# Altium schematic symbol library Howard.SchLib: 217 symbols (part 4 of 5)
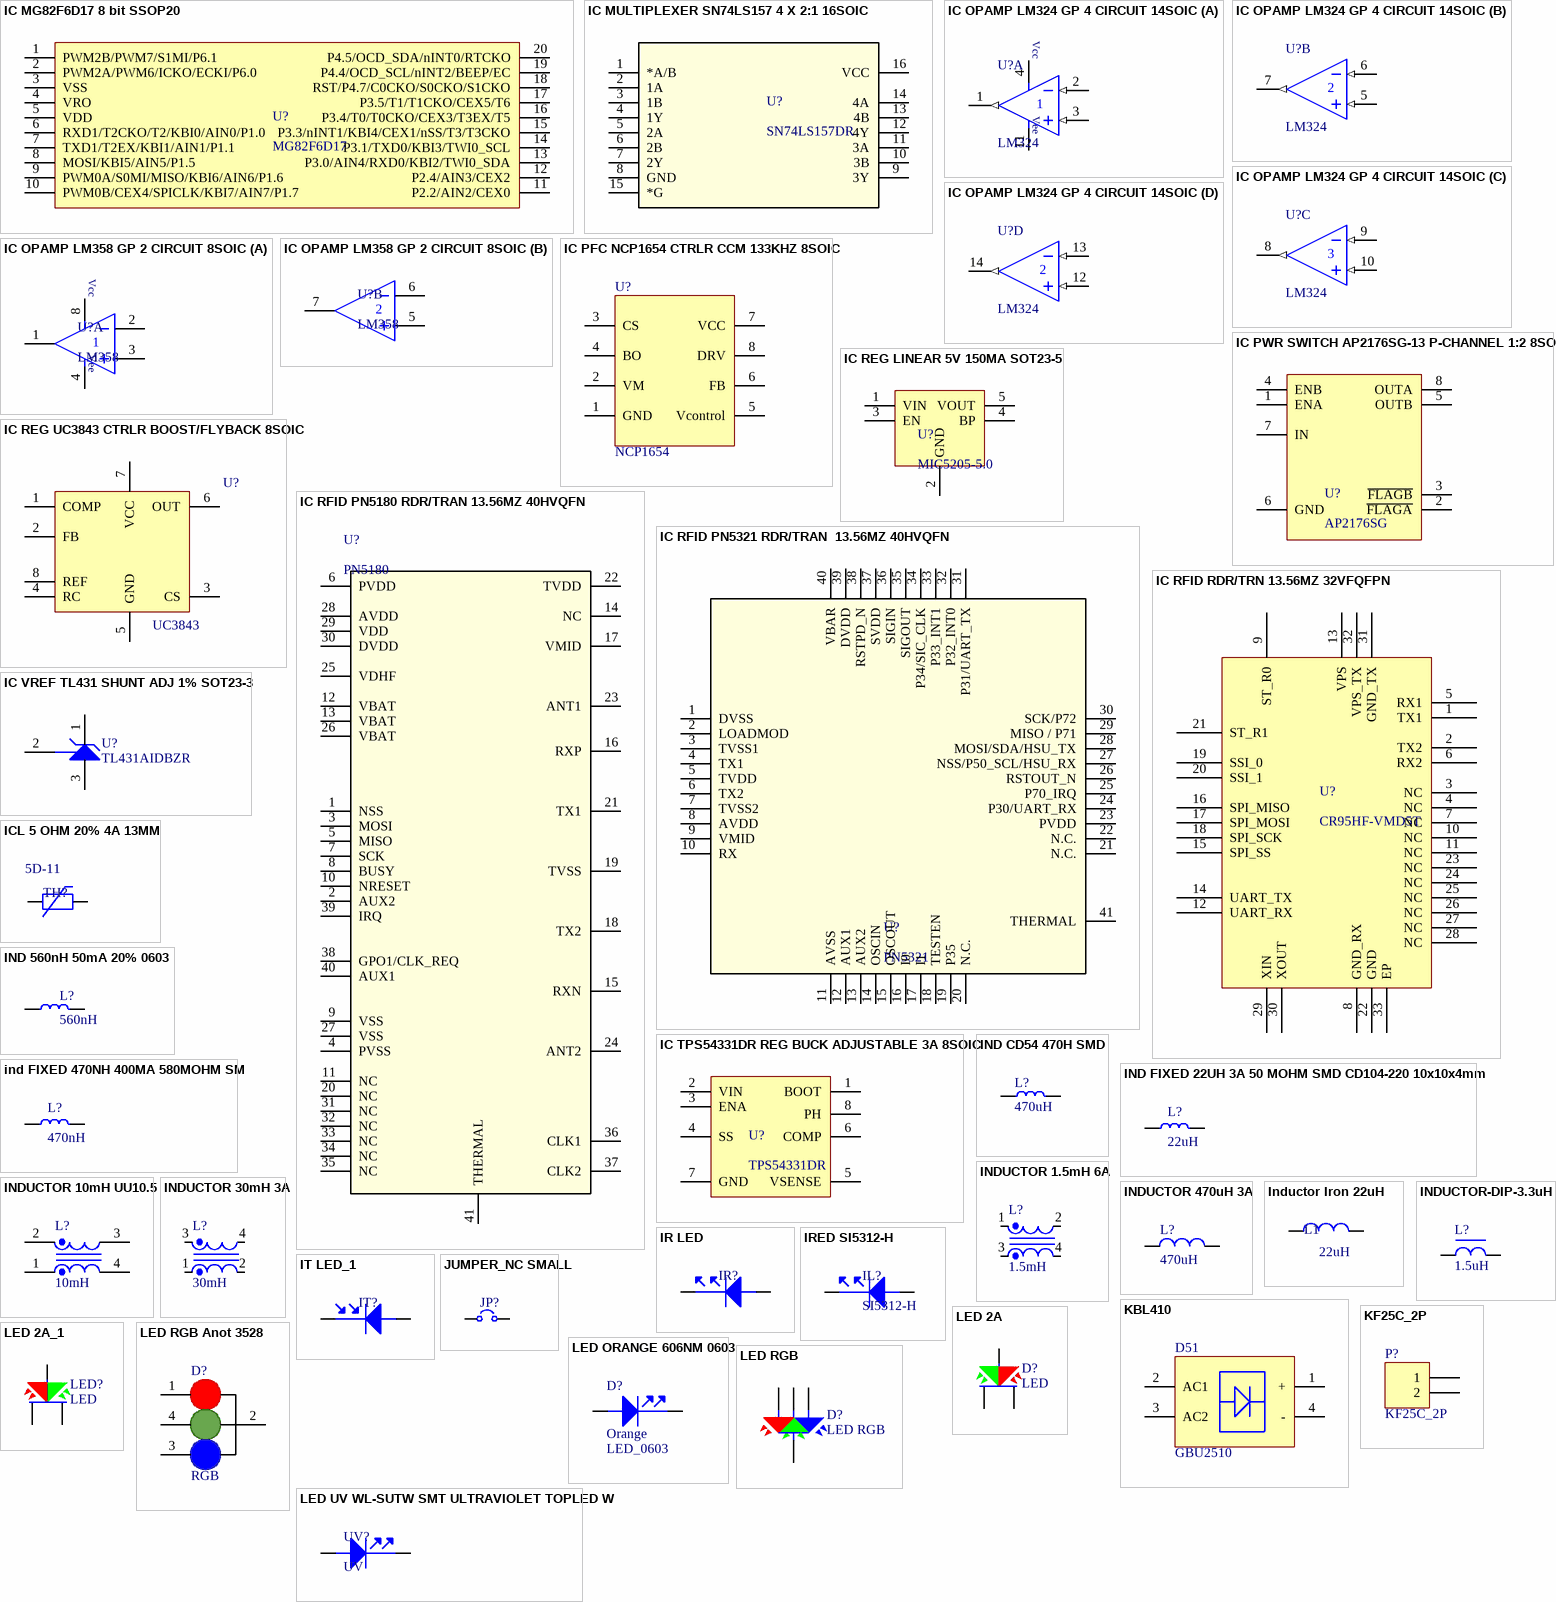
[diagram p10: symbols IC MG82F6D17 8 bit SSOP20 to LED UV WL-SUTW SMT ULTRAVIOLET TOPLED W]

## IND FIXED 22UH 3A 50 MOHM SMD CD104-220 10x10x4mm
designator L?, comment 22uH
Inductor Power Shielded Wirewound 22uH 20% 100KHz Ferrite 3A 0.05Ohm DCR Automotive T/R; Manufacturer: Wurth Electronics; Manufacturer Part Number: 7447714220; Saturation Current: 3.6A; DC Resistance (DCR): 50mR; Self Resonant Frequency: 14.5MHz; Supplier 1: Digi-Key; Stock 1: 9408; Pricing 1: 1=2.26, 10=2.172, 50=1.961, 100=1.759, 250=1.61 (USD); Mount: Surface Mount; Case/Package: Nonstandard; Core Material: Ferrite; Min Operating Temperature: -40°C; Max Operating Temperature: 125°C; Package Quantity: 1; Current Rating: 3A; Tolerance: 20%; Shielding: Shielded; Packaging: Tape and Reel; Inductance Tolerance: 20%; Inductance: 22uH; Resistor Type: Wirewound; Test Frequency: 100kHz; Max DC Current: 3A; Termination: SMD/SMT; RMS Current (Irms): 3A; Series: WE-PD; Resistance: 50mR; Series Resistance: 50mR; Length: 10mm; Width: 10mm; Height: 5mm; Height - Seated (Max): 0.197inch; Depth: 10mm; Ratings: AEC-Q200; RoHS Compliant: Yes; ComponentLink1URL: https://datasheet.ciiva.com/13320/7447714220-70113-13320863.pdf?src-supplier=Mouser; ComponentLink1Description: https://datasheet.ciiva.com/13320/7447714220-70113-13320863.pdf?src-supplier=Mouser; ComponentLink2URL: https://datasheet.ciiva.com/1058/7447714220-1058608.pdf?src-supplier=Digi-Key; ComponentLink2Description: https://datasheet.ciiva.com/1058/7447714220-1058608.pdf?src-supplier=Digi-Key; ComponentLink3URL: https://datasheet.ciiva.com/30489/0900766b81281c0b-30489748.pdf?src-supplier=Rs; ComponentLink3Description: https://datasheet.ciiva.com/30489/0900766b81281c0b-30489748.pdf?src-supplier=Rs; ComponentLink4URL: https://datasheet.ciiva.com/7691/1736273-7691674.pdf?src-supplier=Element14; ComponentLink4Description: https://datasheet.ciiva.com/7691/1736273-7691674.pdf?src-supplier=Element14; ComponentLink5URL: https://datasheet.ciiva.com/1058/7447714220-1058609.pdf?src-supplier=Digi-Key; ComponentLink5Description: https://datasheet.ciiva.com/1058/7447714220-1058609.pdf?src-supplier=Digi-Key; ComponentLink6URL: https://datasheet.ciiva.com/48691/001087798-da-01-ml-we-pd-smd-speicherdrossel-74477142-de-en-48691509.pdf?src-supplier=Conrad; ComponentLink6Description: https://datasheet.ciiva.com/48691/001087798-da-01-ml-we-pd-smd-speicherdrossel-74477142-de-en-48691509.pdf?src-supplier=Conrad; Supplier Part Number 1: 732-2992-1-ND
footprint IND 22uH
footprint L-SMD-M-12x10 (WE-PDA SMD Shielded Power Inductor, 1210)
footprint IND_12x12mm
pins: 1, 2

## ind FIXED 470NH 400MA 580MOHM SM
designator L?, comment 470nH
470 nH Shielded Multilayer Inductor 400 mA 580mOhm Max 0603 (1608 Metric); Manufacturer: Murata; Manufacturer Part Number: LQB18NNR47J10D; Core Material: Ferrite; Current Rating: 400mA; DC Resistance (DCR): 580mR; Self Resonant Frequency: 80MHz; Test Frequency: 25MHz; Tolerance: 5%; Supplier 1: Digi-Key; Stock 1: 3684; Pricing 1: 1=0.15, 10=0.139, 25=0.1236, 50=0.105, 100=0.0927, 250=0.085, 500=0.07726, 1000=0.0649 (USD); Mount: Surface Mount; Case/Package: 1608; Case Code (Metric): 1608; Case Code (Imperial): 0603; Min Operating Temperature: -55°C; Max Operating Temperature: 125°C; Shielding: Shielded; Packaging: Tape and Reel; Package Quantity: 4000; Inductance: 470nH; Max DC Current: 400mA; Termination: SMD/SMT; Series: LQB18NN_10; Length: 0.063inch; Width: 0.8mm; Height: 0.8mm; Height - Seated (Max): 0.037inch; RoHS Compliant: Yes; ComponentLink1URL: https://search.murata.co.jp/Ceramy/image/img/P02/JELF243B-0034.pdf?src-supplier=Digi-Key; ComponentLink1Description: https://search.murata.co.jp/Ceramy/image/img/P02/JELF243B-0034.pdf?src-supplier=Digi-Key; ComponentLink2URL: http://www.mouser.com/ds/2/281/o05e-522697.pdf?src-supplier=Mouser; ComponentLink2Description: http://www.mouser.com/ds/2/281/o05e-522697.pdf?src-supplier=Mouser; ComponentLink3URL: http://www.murata.com/~/media/webrenewal/support/library/catalog/products/inductor/chip/o05e.ashx?src-supplier=Digi-Key; ComponentLink3Description: http://www.murata.com/~/media/webrenewal/support/library/catalog/products/inductor/chip/o05e.ashx?src-supplier=Digi-Key; Supplier Part Number 1: 490-17864-6-ND
footprint INDC1608X06L (Chip Inductor, 2-Leads, Body 1.6x0.8mm, IPC High Density)
pins: 1, 2

## INDUCTOR 1.5mH 6A
designator L?, comment 1.5mH
INDUCTOR 1.5mH 6A; MANUFACTURER1_PART#: TLF9UA102W0R8K1; MANUFACTURER2_PART#: UU10.5/UF10.5 10x13mm; Value: 10mH; LOH_CODE: CLA2611; MANUFACTURER2: http://linhkienchatluong.vn/cuon-loc/cuon-loc-10mh-04mm-uu105uf105-10x13mm_sp487_ct3535.aspx; MANUFACTURER1: *; CATEGORY: IND-TH; SIZE: (17.00mm x 11.00mm)
footprint INDUCTOR 1.2MH
pins: 1, 2, 3, 4

## INDUCTOR 10mH UU10.5
designator L?, comment 10mH
INDUCTOR 10mH UU10.5; MANUFACTURER1_PART#: TLF9UA102W0R8K1; MANUFACTURER2_PART#: UU10.5/UF10.5 10x13mm; LOH_CODE: CLA2611; Value: 10mH; MANUFACTURER2: http://linhkienchatluong.vn/cuon-loc/cuon-loc-10mh-04mm-uu105uf105-10x13mm_sp487_ct3535.aspx; MANUFACTURER1: *; CATEGORY: IND-TH; SIZE: (17.00mm x 11.00mm)
footprint UU10.5
pins: 1, 2, 3, 4

## INDUCTOR 30mH 3A
designator L?, comment 30mH
INDUCTOR 30mH 3A; MANUFACTURER1_PART#: TLF9UA102W0R8K1; MANUFACTURER2_PART#: UU10.5/UF10.5 10x13mm; Value: 10mH; LOH_CODE: CLA2611; MANUFACTURER2: http://linhkienchatluong.vn/cuon-loc/cuon-loc-10mh-04mm-uu105uf105-10x13mm_sp487_ct3535.aspx; MANUFACTURER1: *; CATEGORY: IND-TH; SIZE: (17.00mm x 11.00mm)
footprint INDUCTOR 30mH
pins: 1, 2, 3, 4

## INDUCTOR 470uH 3A
designator L?, comment 470uH
INDUCTOR 470uH 3A
footprint INDUCTOR 470uH
pins: 1, 2

## Inductor Iron 22uH
designator L1, comment 22uH
Inductor
footprint SRR1208
pins: 1, 2

## INDUCTOR-DIP-3.3uH
designator L?, comment 1.5uH
Inductor 1.5uH 6A; Value: 150 mH
footprint L-D - 5m5-d1m2 (THT Inductor, 2-Leads, Body 8,0  mm)
pins: 1, 2

## IR LED
designator IR?, comment SI5312-H  (value not drawn)
IRED SI5312-H
footprint LED-3 IR (LED 2 PIN, 3ly Only colour)
pins: 1 A, 2 K

## IRED SI5312-H
designator IL?, comment SI5312-H
IRED SI5312-H
footprint SI5312-H
pins: 1 A, 2 K

## IT LED_1
designator IT?, comment SI5312-H  (value not drawn)
IRED SI5312-H
footprint LED-3 IR (LED 2 PIN, 3ly Only colour)
pins: 1 A, 2 K

## JUMPER_NC SMALL
designator JP?  (value not drawn)
footprint JUMP_NC (Chip Resistor, 2-Leads, Body 1.6x0.8mm, IPC High Density)
pins: 1, 2

## KBL410
designator D51, comment GBU2510
Diode Rectifier Bridge Single 600V 4A 4-Pin KBJ Tube; Manufacturer: Diodes; Manufacturer Part Number: KBJ406G; Max Reverse Current: 5uA; Forward Voltage: 1V; Number of Elements: 1; Peak Non-Repetitive Surge Current: 120A; Reverse Voltage (DC): 420V; Supplier 1: Digi-Key; Stock 1: 14380; Pricing 1: 1=1.03, 10=0.92, 100=0.7173, 500=0.59252, 1000=0.47344 (USD); Mount: Through Hole; Number of Pins: 4; Min Operating Temperature: -65°C; Max Operating Temperature: 150°C; Packaging: Rail/Tube; Forward Current: 4A; Max Repetitive Reverse Voltage (Vrrm): 600V; Element Configuration: Single; Max Surge Current: 120A; Package Quantity: 20; Termination: Through Hole; Series: -; Length: 25.2mm; Width: 9.7mm; Height: 19.3mm; Radiation Hardening: No; RoHS Compliant: Yes; ComponentLink1URL: https://www.diodes.com/assets/Datasheets/ds21206.pdf?src-supplier=Digi-Key; ComponentLink1Description: https://www.diodes.com/assets/Datasheets/ds21206.pdf?src-supplier=Digi-Key; ComponentLink2URL: http://www.diodes.com//datasheets/ds21206.pdf?src-supplier=Avnet; ComponentLink2Description: http://www.diodes.com//datasheets/ds21206.pdf?src-supplier=Avnet; ComponentLink3URL: https://www.verical.com/server-webapp/html/getDatasheet?partID=754306&src-supplier=Verical; ComponentLink3Description: https://www.verical.com/server-webapp/html/getDatasheet?partID=754306&src-supplier=Verical; Supplier Part Number 1: KBJ406G-ND
footprint KBL410
pins: 1 +, 2 AC1, 3 AC2, 4 -

## KF25C_2P
designator P?
Header, 2-Pin, pitch 7.62mm; Solder: WAVE; MPN: KF25C_2P; Value: KF25C_2P
footprint KF25C_2P
pins: 1, 2

## LED 2A
designator D?, comment LED
Anot Comment Green and Red; Value: LED 3 - 5 ly 2 Colour
footprint LED-52 (LED 3 PIN, 5 ly , Two colour)
pins: 1, 2, 3

## LED 2A_1
designator LED?, comment LED
Anot Comment Green and Red; Value: LED 3 - 5 ly 2 Colour
footprint LED-32 (LED 3 PIN, 3ly Two colour)
footprint LED-52 (LED 3 PIN, 5 ly , Two colour)
pins: 1, 2, 3

## LED ORANGE 606NM 0603
designator D?, comment Orange  Package / Case: LED_0603
LED SMARTLED ORANGE 606NM 0603; Manufacturer: OSRAM Opto Semiconductors Inc; Manufacturer Part Number: LO L29K-H2K1-24-Z; Millicandela Rating: 6.3mcd; Voltage - Forward (Vf) Typ: 1.8V; Current - Test: 2mA; Wavelength - Peak: 610nm; Viewing Angle: 160°; Lens Type: Diffused; Lens Style/Size: Rectangle with Flat Top, 1.3mm x 0.8mm; Luminous Flux @ Current - Test: 25 mlm; By: Hieu.Nguyen_20191030; Supplier 1: Digi-Key; Supplier Part Number 1: 475-2740-1-ND; RoHS: RoHS Compliant; Category: Optoelectronics; Stock 1: 15900; Pricing 1: 1=0.17, 10=0.141, 100=0.1127, 250=0.0986, 500=0.09016 (USD); Color: Orange; Wavelength - Dominant: 606nm; Size / Dimension: 1.70mm L x 0.80mm W; Height: 0.65mm; Mounting Type: Surface Mount; Packaging: Cut Tape (CT); ComponentLink1URL: http://catalog.osram-os.com/catalogue/catalogue.do;jsessionid=302CF83AF637AE24E40AEB0ADA267EDD?act=downloadFile&favOid=020000010003f9de000100b6; ComponentLink1Description: http://catalog.osram-os.com/catalogue/catalogue.do;jsessionid=302CF83AF637AE24E40AEB0ADA267EDD?act=downloadFile&favOid=020000010003f9de000100b6
footprint LED_0603_0m65
pins: 1 ANODE, 2 cathode

## LED RGB
designator D?
footprint led rgb (Connector; Header; 6 Position, 0.050" pitch)
pins: 1, 2, 3, 4

## LED RGB Anot 3528
designator D?, comment RGB
LED 5mm RGB Katot; Solder: WAVE; MPN: http://linhkienchatluong.vn/led-don-f5-5mm/led-5mm-rgb-trang-duc-k-chung_sp697_ct4454.aspx; Value: RGB; Category: *
footprint LED 3528 4PIN
pins: 1 R, 2 A, 3 B, 4 G

## LED UV WL-SUTW SMT ULTRAVIOLET TOPLED W
designator UV?, comment UV
Ultraviolet (UV) Emitter 365nm 3.6V 60mA 120° 1411 (3528 Metric); Manufacturer: Wurth Electronics; Manufacturer Part Number: 153283367A212; Supplier 1: Digi-Key; Stock 1: 2079; Pricing 1: 1=0.38, 10=0.34, 100=0.31, 250=0.29, 500=0.21 (USD); Supplier Part Number 1: 732-153283367A212CT-ND
footprint LED 3528
pins: 1 cathode, 2 ANODE

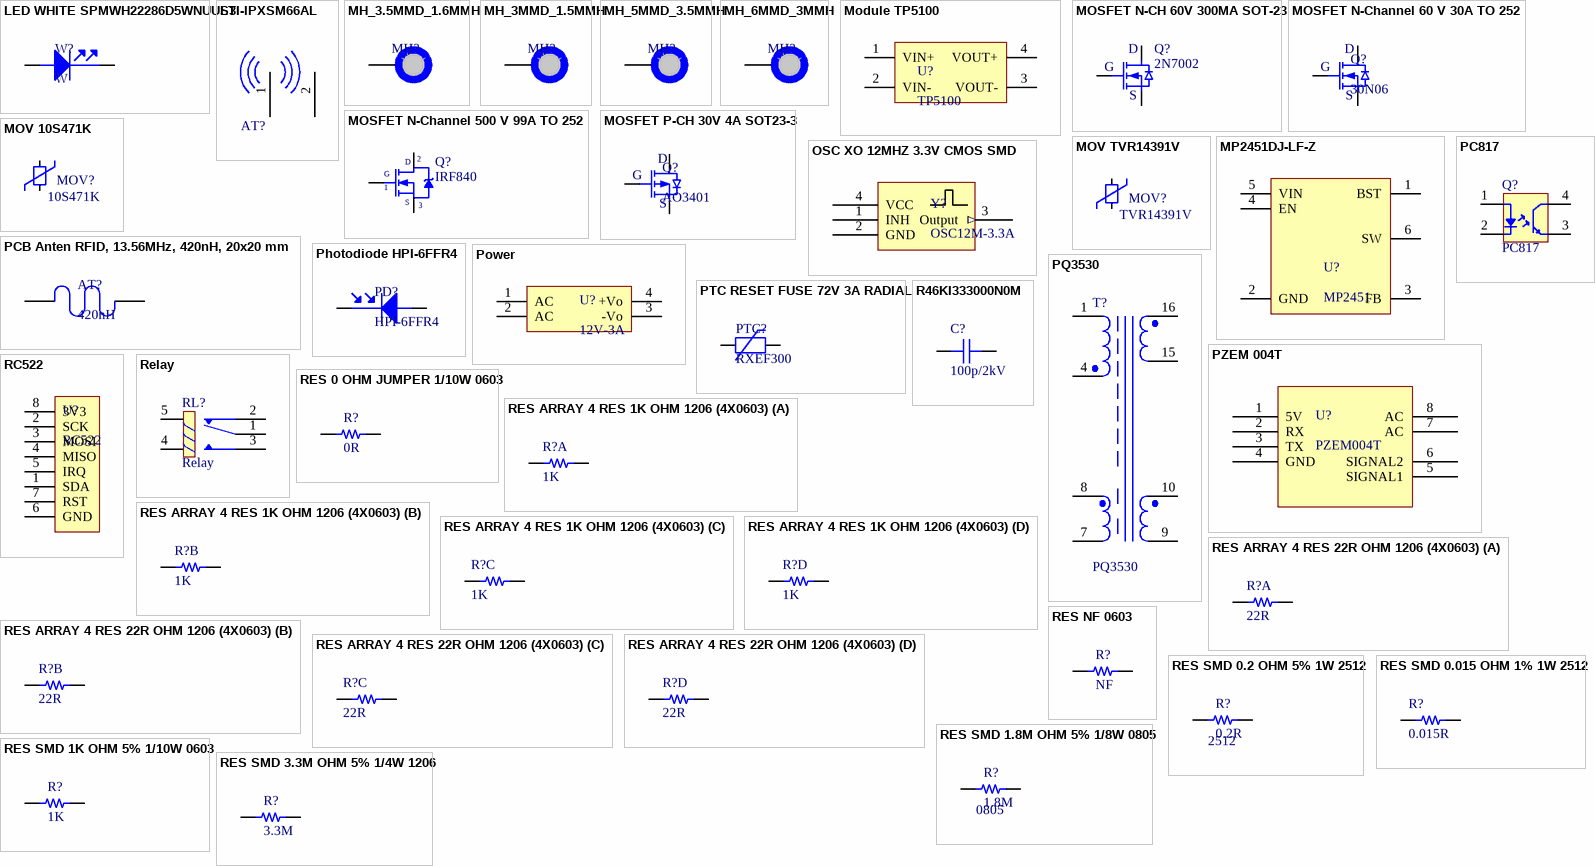
[diagram p6: symbols LED WHITE SPMWH22286D5WNUUS3 to RES SMD 3.3M OHM 5% 1/4W 1206]

## LED WHITE SPMWH22286D5WNUUS3
designator W?, comment W
LED Lighting LM281BA+ White, Warm 3500K 3.1V 60mA 120° 2-SMD, No Lead; Manufacturer: Samsung; Manufacturer Part Number: SPMWH22286D5WNUUS3; Supplier 1: Digi-Key; Stock 1: 39870; Pricing 1: 1=0.1, 10=0.03, 100=0.0141, 500=0.01206, 1000=0.00927, 2000=0.00872 (USD); Supplier Part Number 1: 1510-SPMWH22286D5WNUUS3DKR-ND
footprint LED 3228
footprint LED 3528W
pins: 1 cathode, 2 ANODE

## LTI-IPXSM66AL
designator AT?, comment IPEX_CON  (value not drawn)
IPEX CONNECTER ANTENNA GPS GSM; MPN: LTI-IPXSM66AL; Solder: SMT; Value: IPEX_CON
footprint IPEX
pins: 1 AT, 2 0

## MH_3.5MMD_1.6MMH
designator MH?  (value not drawn)
Mounting Hole 3.5mm Diameter, 1.6mm Hole
footprint MH_3.5MMD_1.6MMH
pins: 1

## MH_3MMD_1.5MMH
designator MH?  (value not drawn)
Mounting Hole 3mm Diameter, 1.5mm Hole
footprint MH_3MMD_1.5MMH
pins: 1

## MH_5MMD_3.5MMH
designator MH?  (value not drawn)
Mounting Hole 5mm Diameter, 3.5mm Hole
footprint MH_5MMD_3.5MMH
pins: 1

## MH_6MMD_3MMH
designator MH?  (value not drawn)
Mounting Hole 6mm Diameter, 3mm Hole
footprint MH_6MMD_3MMH
pins: 1

## Module TP5100
designator U?, comment TP5100
footprint TP5100
pins: 1 VIN+, 2 VIN-, 3 VOUT-, 4 VOUT+

## MOSFET N-CH 60V 300MA SOT-23
designator Q?, comment 2N7002
MOSFET N-CH 60V 300MA SOT-23; MPN: 2N7002,215; Manufacturer: ON Semiconductor / Fairchild; Solder: SMT; CompanyID: VT-00926; Value: 60V/0.3A; Continuous Drain Current (ID): 115mA; Gate to Source Voltage (Vgs): 20V; Max Power Dissipation: 200mW; Drain to Source Resistance: 1.2R; Element Configuration: Single; Nominal Vgs: 2.1V; Input Capacitance: 50pF; Number of Elements: 1; Rds On Max: 7.5R; On-State Resistance: 5.3R; Supplier 1: Digi-Key; Manufacturer Part Number: 2N7002; Stock 1: 0; Pricing 1: 1=0.45, 10=0.345, 100=0.2073, 500=0.1919, 1000=0.13049 (USD); Mount: Surface Mount; Case/Package: SOT-23; Number of Pins: 3; Contact Plating: Tin,Matte; Min Operating Temperature: -55°C; Max Operating Temperature: 150°C; Packaging: Tape and Reel; Drain to Source Voltage (Vdss): 60V; Package Quantity: 1; Drain to Source Breakdown Voltage: 60V; Power Dissipation: 200mW; Voltage Rating (DC): 60V; Current Rating: 115mA; Threshold Voltage: 2.1V; Series: -; Dual Supply Voltage: 60V; Voltage: 60V; Current: 115mA; Drain-source On Resistance-Max: 7.5R; Length: 2.92mm; Width: 1.3mm; Height: 0.93mm; Radiation Hardening: No; RoHS Compliant: Yes; Lead Free: Lead Free; Reach SVHC Compliant: Yes; ComponentLink1URL: https://datasheet.ciiva.com/931/2n7000-931777.pdf?src-supplier=Farnell; ComponentLink1Description: https://datasheet.ciiva.com/931/2n7000-931777.pdf?src-supplier=Farnell; ComponentLink2URL: https://datasheet.ciiva.com/22655/660093-22655230.pdf?src-supplier=Element14; ComponentLink2Description: https://datasheet.ciiva.com/22655/660093-22655230.pdf?src-supplier=Element14; ComponentLink3URL: https://datasheet.ciiva.com/17007/2n7002-17007243.pdf?src-supplier=Future+Electronics; ComponentLink3Description: https://datasheet.ciiva.com/17007/2n7002-17007243.pdf?src-supplier=Future+Electronics; ComponentLink4URL: https://datasheet.ciiva.com/931/2n7000-931764.pdf?src-supplier=Digi-Key; ComponentLink4Description: https://datasheet.ciiva.com/931/2n7000-931764.pdf?src-supplier=Digi-Key; ComponentLink5URL: https://datasheet.ciiva.com/931/2n7000-931762.pdf?src-supplier=Digi-Key; ComponentLink5Description: https://datasheet.ciiva.com/931/2n7000-931762.pdf?src-supplier=Digi-Key; ComponentLink6URL: https://datasheet.ciiva.com/1254/660093-1254452.pdf?src-supplier=Newark; ComponentLink6Description: https://datasheet.ciiva.com/1254/660093-1254452.pdf?src-supplier=Newark; ComponentLink7URL: https://datasheet.ciiva.com/1188/660093-1188359.pdf?src-supplier=Element14; ComponentLink7Description: https://datasheet.ciiva.com/1188/660093-1188359.pdf?src-supplier=Element14; ComponentLink8URL: https://datasheet.ciiva.com/1188/660093-1188361.pdf?src-supplier=Element14; ComponentLink8Description: https://datasheet.ciiva.com/1188/660093-1188361.pdf?src-supplier=Element14; Supplier Part Number 1: 2N7002NCT-ND
footprint SOT 23
pins: 1 G, 2 S, 3 D

## MOSFET N-Channel 60 V 30A TO 252
designator Q?, comment 30N06
60V 25A 30m¦¸@10V, 15A 34.7W 2.5V@250¦ÌA N Channel TO-252 MOSFETs ROHS; Manufacturer: UMW(Youtai Semiconductor Co., Ltd.); Supplier 1: Digi-Key; Manufacturer Part Number: 30N06; RoHS: No; Category: Uncategorized; Stock 1: 2199; Pricing 1: 1=0.68, 10=0.587, 100=0.4062, 500=0.33942, 1000=0.28886 (USD); Supplier Part Number 1: 4518-30N06CT-ND
footprint TO-252 (TO252, 4-Leads, Body 6.7x10.4mm (max), Pitch 2.28mm, IPC Medium Density)
pins: 1 G, 2 D, 3 S

## MOSFET N-Channel 500 V 99A TO 252
designator Q?, comment IRF840
N-Channel 500 V 99A (Tc) 50W (Tc) Through Hole TO-220F-3; MANUFACTURER1: ON; Value: FQPF10N60C; VOLTAGE: 600V; CURRENT: 10A; LOH_CODE: CL00023; MANUFACTURER1_PART#: FQPF10N60C; MANUFACTURER2: http://linhkienchatluong.vn/fets/10n60-fqpf10n60c-n-mosfet-10a-600vto-220f_sp589_ct409.aspx; MANUFACTURER2_PART#: FQPF10N60C
footprint TO-220D
pins: 1 G, 2 D, 3 S

## MOSFET P-CH 30V 4A SOT23-3
designator Q?, comment AO3401
Transistor P-Channel MOSFET; 30V; 4, 2A; 1, 4W; 85 mOhm; -55°C ~ 150°C; ;; Manufacturer: Alpha & Omega Semiconductor; Manufacturer Part Number: AO3401A; Rds On Max: 44mR; Input Capacitance: 1.2nF; Continuous Drain Current (ID): 4A; Max Power Dissipation: 1.4W; Number of Elements: 1; Supplier 1: Digi-Key; Stock 1: 1131740; Pricing 1: 1=0.44, 10=0.333, 100=0.2073, 500=0.1418, 1000=0.10908 (USD); Mount: Surface Mount; Case/Package: TO-236-3; Number of Pins: 3; Min Operating Temperature: -55°C; Max Operating Temperature: 150°C; Packaging: Cut Tape; Drain to Source Voltage (Vdss): 30V; Series: -; Power Dissipation: 1.4W; Radiation Hardening: No; RoHS Compliant: Yes; Lead Free: Lead Free; ComponentLink1URL: https://datasheet.ciiva.com/940/ao3401a-940720.pdf?src-supplier=Digi-Key; ComponentLink1Description: https://datasheet.ciiva.com/940/ao3401a-940720.pdf?src-supplier=Digi-Key; ComponentLink2URL: https://datasheet.ciiva.com/26927/getdatasheetpartid-79048-26927888.pdf?src-supplier=Verical; ComponentLink2Description: https://datasheet.ciiva.com/26927/getdatasheetpartid-79048-26927888.pdf?src-supplier=Verical; Supplier Part Number 1: 785-1001-1-ND
footprint SOT 23
pins: 1 G, 2 S, 3 D

## MOV 10S471K
designator MOV?, comment 10S471K
VARISTOR 470V 2.5KA DISC 10MM; MANUFACTURER2_PART#: 10D391K 390V 10mm; MANUFACTURER1: Bourns; MANUFACTURER1_PART#: MOV-10D391K; LOH_CODE: CLA1220; Value: 10D391; MANUFACTURER2: http://linhkienchatluong.vn/tu-chong-set---varistor/tu-chong-set-varistor-10d391k-390v-10mm_sp1161_ct1335.aspx; CATEGORY: VARISTOR
footprint 10S471K
pins: 1, 2

## MOV TVR14391V
designator MOV?, comment TVR14391V
VARISTOR 390V 2.5KA DISC 10MM; MANUFACTURER2_PART#: 10D391K 390V 10mm; MANUFACTURER1: Bourns; MANUFACTURER1_PART#: MOV-10D391K; LOH_CODE: CLA1220; Value: 10D391; MANUFACTURER2: http://linhkienchatluong.vn/tu-chong-set---varistor/tu-chong-set-varistor-10d391k-390v-10mm_sp1161_ct1335.aspx; CATEGORY: VARISTOR
footprint TVR14391V
pins: 1, 2

## MP2451DJ-LF-Z
designator U?, comment MP2451
IC REG BUCK ADJ 0.6A; Manufacturer: Monolithic Power Systems; Manufacturer Part Number: MP2451DJ-LF-Z; Number of Outputs: 1; Min Input Voltage: 3.3V; Max Input Voltage: 36V; Min Output Voltage: 800mV; Max Output Voltage: 28.8V; Output Current: 600mA; Switching Frequency: 2MHz; Synchronous Rectifier: No; Output Type: Adjustable; Output Configuration: Positive; Supplier 1: Digi-Key; Stock 1: 6000; Pricing 1: 1=2.75, 10=2.472, 25=2.332, 100=1.9869, 250=1.8656, 500=1.6324, 1000=1.35256 (USD); Mount: Surface Mount; Case/Package: SOT-23-6; Min Operating Temperature: -40°C; Max Operating Temperature: 125°C; Packaging: Tape and Reel; Series: -; RoHS Compliant: Yes; ComponentLink1URL: https://www.monolithicpower.com/pub/media/document/MP2451_r1.33.pdf?src-supplier=Digi-Key; ComponentLink1Description: https://www.monolithicpower.com/pub/media/document/MP2451_r1.33.pdf?src-supplier=Digi-Key; ComponentLink2URL: http://www.monolithicpower.com/DesktopModules/DocumentManage/API/Document/getDocument?id=302&src-supplier=Digi-Key; ComponentLink2Description: http://www.monolithicpower.com/DesktopModules/DocumentManage/API/Document/getDocument?id=302&src-supplier=Digi-Key; Supplier Part Number 1: 1589-1893-6-ND
footprint SOT23-6
pins: 1 BST, 2 GND, 3 FB, 4 EN, 5 VIN, 6 SW

## OSC XO 12MHZ 3.3V CMOS SMD
designator Y?, comment OSC12M-3.3A
12 MHz XO (Standard) CMOS Oscillator 3.3V Enable/Disable 4-SMD, No Lead; Manufacturer: YIC; Manufacturer Part Number: OSC12M-3.3A/S3-10; Supplier 1: Digi-Key; Stock 1: 2995; Pricing 1: 1=0.8 (USD); Supplier Part Number 1: 3155-OSC12M-3.3A/S3-10CT-ND
footprint CRYSTALL_SMD_3225
pins: 1 INH, 2 GND (power), 3 Output (out), 4 VCC (power)

## PC817
designator Q?
footprint PC817
pins: 1, 2, 3, 4

## PCB Anten RFID, 13.56MHz, 420nH, 20x20 mm
designator AT?, comment 420nH  (net tie, no BOM)
PCB Anten RFID, 13.56MHz, 420nH, 20x20 mm; Solder: Not Fill; Value: 420nH
footprint PCB Anten RFID, 13.56MHz, 420nH, 20x20 mm
pins: 1, 2

## Photodiode HPI-6FFR4
designator PD?, comment HPI-6FFR4
Photodiode HPI-6FFR4
footprint HPI-6FFR4
pins: 1 A, 2 K

## Power
designator U?, comment 12V-3A
Hi link 12V 3A
footprint 220-5V
pins: 1 AC, 2 AC, 3 -Vo, 4 +Vo

## PQ3530
designator T?
Transformer; MANUFACTURER1: LOH; VALUE: PQ3220-FLY; MANUFACTURER1_PART#: PQ3220-FLY; CATEGORY: TRANSFORMER; SIZE: Transformer; 4 Leads
footprint PQ3530
pins: 1, 4, 7, 8, 9, 10, 15, 16

## PTC RESET FUSE 72V 3A RADIAL
designator PTC?, comment RXEF300
PTC Resettable Fuse 3A(hold) 6A(trip) 72V 40A 2.8W 19.8s 0.04Ohm Radial 23.9 X 3mm Bag; Manufacturer: Littelfuse; Resistance: 100mR; Supplier 1: Future Electronics; Manufacturer Part Number: RXEF300; RoHS: Yes; Category: PTC Resettable Fuses; Stock 1: 24536; Pricing 1: 1=0.46, 100=0.44, 300=0.425, 1250=0.41, 4000=0.375 (USD); Mount: Through Hole; Case/Package: Radial; Min Operating Temperature: -40°C; Max Operating Temperature: 85°C; Hold Current: 3A; Packaging: Bag; Max Current Rating: 40A; Trip Current: 6A; Time to Trip: 19.8s; Series: PolySwitch®, RXEF; Operating Supply Voltage: 72V; Power Dissipation: 2.8W; Width: 23.9mm; Height: 28.6mm; RoHS Compliant: Yes; ComponentLink1URL: http://www.farnell.com/datasheets/1482689.pdf?src-supplier=Farnell; ComponentLink1Description: http://www.farnell.com/datasheets/1482689.pdf?src-supplier=Farnell; ComponentLink2URL: https://www.littelfuse.com/~/media/electronics/product_specifications/resettable_ptcs/littelfuse_ptc_rxef300_product_specification.pdf.pdf?src-supplier=Digi-Key; ComponentLink2Description: https://www.littelfuse.com/~/media/electronics/product_specifications/resettable_ptcs/littelfuse_ptc_rxef300_product_specification.pdf.pdf?src-supplier=Digi-Key; ComponentLink3URL: https://datasheet.octopart.com/RXEF300-Littelfuse-datasheet-11084691.pdf?src-supplier=Element14; ComponentLink3Description: https://datasheet.octopart.com/RXEF300-Littelfuse-datasheet-11084691.pdf?src-supplier=Element14; ComponentLink4URL: https://datasheet.octopart.com/RXEF300-Littelfuse-datasheet-67370982.pdf?src-supplier=Future+Electronics; ComponentLink4Description: https://datasheet.octopart.com/RXEF300-Littelfuse-datasheet-67370982.pdf?src-supplier=Future+Electronics; ComponentLink5URL: https://datasheet.octopart.com/RXEF300-Littelfuse-datasheet-103962732.pdf?src-supplier=LKR; ComponentLink5Description: https://datasheet.octopart.com/RXEF300-Littelfuse-datasheet-103962732.pdf?src-supplier=LKR; Supplier Part Number 1: 3158847
footprint PTC 10mm
pins: 1, 2

## PZEM 004T
designator U?, comment PZEM004T
footprint PZEM
pins: 1 5V, 2 RX, 3 TX, 4 GND, 5 SIGNAL1, 6 SIGNAL2, 7 AC, 8 AC

## R46KI333000N0M
designator C?, comment 100p/2kV
CAP FILM 0.33UF 20% 560VDC RAD; MPN: R46KI333000N0M; MFR: KEMET; Value: 220pF/630V; Solder: WAVE; Category: CAPACITOR; PinCount: 2
footprint CN2
pins: 1, 2

## RC522
designator U?
footprint HDR1X8 (Connector; Header; 8 Position)
pins: 1 SDA, 2 SCK, 3 MOSI, 4 MISO, 5 IRQ, 6 GND, 7 RST, 8 3V3

## Relay
designator RL?
footprint Relay
pins: 1, 2, 3, 4, 5

## RES 0 OHM JUMPER 1/10W 0603
designator R?, comment 0R
YAGEO - RC0603JR-070RL - Chipwiderstand, Oberflächenmontage, Jumper, 0603 [Metrisch 1608], 0 ohm, Baureihe RC, 75 V, Dickschicht; Resistance: 0mR; Tolerance: 1%; Power Rating: 100mW; Voltage Rating (DC): 50V; Temperature Coefficient: 200ppm/°C; Supplier 1: Digi-Key; Manufacturer: Yageo; Manufacturer Part Number: RC0603JR-070RL; Stock 1: 15815546; Pricing 1: 1=0.1, 10=0.018, 25=0.0132, 50=0.01, 100=0.0074, 250=0.0057, 500=0.0045, 1000=0.0033 (USD); Case/Package: 0603; Number of Pins: 2; Contact Plating: Tin,Matte; Case Code (Imperial): 0603; Case Code (Metric): 1608; Min Operating Temperature: -55°C; Max Operating Temperature: 155°C; Composition: Thick Film; Packaging: Tape and Reel; Termination: SMD/SMT; Package Quantity: 5000; Voltage Rating: 50V; Military Standard: Not; Length: 1.6mm; Height: 0.45mm; Width: 0.8mm; Depth: 0.8mm; Radiation Hardening: No; REACH SVHC: No SVHC; Lead Free: Lead Free; ComponentLink1URL: http://www.farnell.com/datasheets/2167052.pdf?src-supplier=Element14; ComponentLink1Description: http://www.farnell.com/datasheets/2167052.pdf?src-supplier=Element14; ComponentLink2URL: https://www.verical.com/server-webapp/html/getDatasheet?partID=329462&src-supplier=Verical; ComponentLink2Description: https://www.verical.com/server-webapp/html/getDatasheet?partID=329462&src-supplier=Verical; ComponentLink3URL: http://www.yageo.com/documents/recent/PYu-RC_Group_51_RoHS_L_9.pdf?src-supplier=Mouser; ComponentLink3Description: http://www.yageo.com/documents/recent/PYu-RC_Group_51_RoHS_L_9.pdf?src-supplier=Mouser; ComponentLink4URL: http://www.farnell.com/datasheets/443971.pdf?src-supplier=Element14; ComponentLink4Description: http://www.farnell.com/datasheets/443971.pdf?src-supplier=Element14; ComponentLink5URL: http://documents.rs-components.com/techlib://itc_doclist_GB.htm?stockno=6515918&src-supplier=RSComponents; ComponentLink5Description: http://documents.rs-components.com/techlib://itc_doclist_GB.htm?stockno=6515918&src-supplier=RSComponents; Supplier Part Number 1: 311-0.0GRCT-ND
footprint R0603B/1608MM (Chip Resistor, 2-Leads, Body 1.6x0.8mm, IPC High Density)
pins: 1, 2

## RES ARRAY 4 RES 1K OHM 1206 (4X0603)
designator R?, comment 1K
RES ARRAY 4 RES 1K OHM 1206 (4X0603); MPN: EXB38V102JV; CompanyID: VT-00784; Solder: SMT; Value: 1K; Category: RESISTOR; PinCount: 8
footprint RES_ARRAY_4x0603 (Resistor, Chip Array, 2 Side Convex, 0.80 mm pitch; 8 pin, 3.20 mm L X 1.60 mm W X 0.60 mm H body)
part A pins: 1, 2
part B pins: 3, 4
part C pins: 5, 6
part D pins: 7, 8

## RES ARRAY 4 RES 22R OHM 1206 (4X0603)
designator R?, comment 22R
RES ARRAY 4 RES 22R OHM 1206 (4X0603); MPN: EXB38V102JV; CompanyID: VT-00784; Solder: SMT; Value: 1K; Category: RESISTOR; PinCount: 8
footprint RES_ARRAY_4x0603 (Resistor, Chip Array, 2 Side Convex, 0.80 mm pitch; 8 pin, 3.20 mm L X 1.60 mm W X 0.60 mm H body)
part A pins: 1, 2
part B pins: 3, 4
part C pins: 5, 6
part D pins: 7, 8

## RES NF 0603
designator R?, comment NF
Resistor Not Fitted
footprint R0603B/1608MM (Chip Resistor, 2-Leads, Body 1.6x0.8mm, IPC High Density)
pins: 1, 2

## RES SMD 0.2 OHM 5% 1W 2512
designator R?, comment 0.2R  Case/Package: 2512
Surface Mount Thick Film Resistor, RC Series, 10 kohm, 1W, - 5%, 50 V, 2512; Manufacturer: Yageo; Manufacturer Part Number: RC0603JR-0710KL; Resistance: 10kR; Temperature Coefficient: 100ppm/°C; Voltage Rating (DC): 50V; Power Rating: 100mW; Supplier 1: Digi-Key; Stock 1: 10996894; Pricing 1: 1=0.1, 10=0.02, 100=0.008, 1000=0.0036, 2500=0.00312 (USD); Number of Pins: 2; Contact Plating: Tin,Matte; Min Operating Temperature: -55°C; Max Operating Temperature: 155°C; Tolerance: 5%; Resistor Type: Thick Film; Packaging: Tape and Reel; Voltage Rating: 50V; Termination: SMD/SMT; Features: Moisture Resistant; Max Power Dissipation: 1W; Number of Terminations: 2; Length: 0.063inch; Width: 0.031inch; Depth: 0.8mm; Height - Seated (Max): 0.022inch; Radiation Hardening: No; REACH SVHC: Unknown; Lead Free: Lead Free; Military Standard: Not; RoHS Compliant: Yes; ComponentLink1URL: http://www.yageo.com/documents/recent/PYu-RC_Group_51_RoHS_L_10.pdf?src-supplier=Digi-Key; ComponentLink1Description: http://www.yageo.com/documents/recent/PYu-RC_Group_51_RoHS_L_10.pdf?src-supplier=Digi-Key; Supplier Part Number 1: 311-10KGRCT-ND; Case Code (Metric): 6332; Case Code (Imperial): 6332
footprint R2512B/6332MM (Chip Resistor, 2-Leads, Body 6.3x3.2mm, IPC Medium Density)
pins: 1, 2

## RES SMD 0.015 OHM 1% 1W 2512
designator R?, comment 0.015R
Current Sense Resistors - SMD MSMA, 2512 SIZE, 1 Watt, 15 mohm, 50 TCR NiCu Metal AEC-Q; Manufacturer: Eaton; Manufacturer Part Number: MSMA2512R0150FCN; Supplier 1: Newark; RoHS: No; Category: Chip SMD Resistors; Stock 1: 3990; Pricing 1: 10=0.235, 25=0.221, 50=0.208, 100=0.195 (USD); Supplier Part Number 1: 61AK4371
footprint R2512B/6332MM (Chip Resistor, 2-Leads, Body 6.3x3.2mm, IPC Medium Density)
pins: 1, 2

## RES SMD 1.8M OHM 5% 1/8W 0805
designator R?, comment 1.8M  Case/Package: 0805
Res Thick Film 0805 1.8M Ohm 5% 1/8W ±100ppm/°C Molded SMD SMD Paper T/R; Manufacturer: Yageo; Manufacturer Part Number: RC0805JR-071M8L; Resistance: 1.8MR; Power Rating: 125mW; Voltage Rating: 150V; Supplier 1: Digi-Key; Stock 1: 11875; Pricing 1: 1=0.1, 10=0.036, 100=0.0145, 1000=0.00652, 2500=0.00566 (USD); Contact Plating: Tin,Matte; Case Code (Imperial): 0805; Case Code (Metric): 2012; Size Code: 0805; Min Operating Temperature: -55°C; Max Operating Temperature: 155°C; Tolerance: 5%; Resistor Type: Thick Film; Temperature Coefficient: 100ppm/°C; Packaging: Tape and Reel; Package Quantity: 1; Termination: SMD/SMT; Number of Terminations: 2; Max Power Dissipation: 125mW; Voltage Rating (DC): 150V; Features: Moisture Resistant; Series: RC; Construction: Rectangular; Length: 2mm; Width: 1.25mm; Height: 0.5mm; Depth: 1.25mm; Radiation Hardening: No; Military Standard: Not; Lead Free: Lead Free; RoHS Compliant: Yes; ComponentLink1URL: http://www.yageo.com/documents/recent/PYu-RC_Group_51_RoHS_L_9.pdf?src-supplier=Digi-Key; ComponentLink1Description: http://www.yageo.com/documents/recent/PYu-RC_Group_51_RoHS_L_9.pdf?src-supplier=Digi-Key; ComponentLink2URL: https://www.yageo.com/upload/media/product/productsearch/datasheet/rchip/PYu-RC_Group_51_RoHS_L_10.pdf?src-supplier=Digi-Key; ComponentLink2Description: https://www.yageo.com/upload/media/product/productsearch/datasheet/rchip/PYu-RC_Group_51_RoHS_L_10.pdf?src-supplier=Digi-Key; Supplier Part Number 1: 311-1.8MARDKR-ND
footprint R0805B/2012MM (Chip Resistor, 2-Leads, Body 2.0x1.3mm, IPC Medium Density)
pins: 1, 2

## RES SMD 1K OHM 5% 1/10W 0603
designator R?, comment 1K
YAGEO - RC0603JR-071KL - SMD Chip Resistor, 0603 [1608 Metric], 1 kohm, RC Series, 75 V, Thick Film, 100 mW; Resistance: 1kR; Tolerance: 5%; Temperature Coefficient: 100ppm/°C; Power Rating: 100mW; Voltage Rating: 50V; Body Length: 1.6mm; Supplier 1: Digi-Key; Manufacturer: Yageo; Manufacturer Part Number: RC0603JR-071KL; Stock 1: 1916999; Pricing 1: 1=0.1, 10=0.02, 100=0.008, 1000=0.0036, 2500=0.00312 (USD); Case/Package: 0603; Number of Pins: 2; Contact Plating: Tin,Matte; Case Code (Metric): 1608; Size Code: 0603; Min Operating Temperature: -55°C; Max Operating Temperature: 155°C; Resistor Type: Thick Film; Packaging: Tape and Reel; Package Quantity: 5000; Voltage Rating (DC): 50V; Termination: SMD/SMT; Series: RC; Resistance Tolerance: 5%; Construction: Rectangular; Length: 1.6mm; Width: 0.8mm; Height: 0.45mm; Depth: 0.8mm; Radiation Hardening: No; REACH SVHC: Unknown; Military Standard: Not; Lead Free: Lead Free; RoHS Compliant: Yes; ComponentLink1URL: http://www.farnell.com/datasheets/443971.pdf?src-supplier=Element14; ComponentLink1Description: http://www.farnell.com/datasheets/443971.pdf?src-supplier=Element14; ComponentLink2URL: http://www.farnell.com/datasheets/2167052.pdf?src-supplier=Element14; ComponentLink2Description: http://www.farnell.com/datasheets/2167052.pdf?src-supplier=Element14; ComponentLink3URL: http://www.farnell.com/datasheets/1868787.pdf?src-supplier=Element14; ComponentLink3Description: http://www.farnell.com/datasheets/1868787.pdf?src-supplier=Element14; ComponentLink4URL: http://www.yageo.com/documents/recent/PYu-RC_Group_51_RoHS_L_2.pdf?src-supplier=Avnet; ComponentLink4Description: http://www.yageo.com/documents/recent/PYu-RC_Group_51_RoHS_L_2.pdf?src-supplier=Avnet; Case Code (Imperial): 0603
footprint R0603B/1608MM (Chip Resistor, 2-Leads, Body 1.6x0.8mm, IPC High Density)
pins: 1, 2

## RES SMD 3.3M OHM 5% 1/4W 1206
designator R?, comment 3.3M
Surface Mount Thick Film Resistor, RC Series, 3.3Mohm, 100 mW, - 5%, 50 V, 1206; Manufacturer: Yageo; Manufacturer Part Number: RC1206JR-073M3L; Resistance: 3.3MR; Power Rating: 250mW; Voltage Rating: 200V; Temperature Coefficient: 100ppm/°C; Supplier 1: Digi-Key; Stock 1: 9900; Pricing 1: 1=0.1, 10=0.063, 100=0.0258, 1000=0.01158, 2500=0.01005 (USD); Case Code (Metric): 3216; Case Code (Imperial): 1206; Min Operating Temperature: -55°C; Max Operating Temperature: 155°C; Tolerance: 5%; Packaging: Tape and Reel; Package Quantity: 5000; Resistor Type: Thick Film; Number of Terminations: 2; Termination: SMD/SMT; Max Power Dissipation: 250mW; Voltage Rating (DC): 200V; Features: Moisture Resistant; Series: RC; Construction: Rectangular; Length: 0.122inch; Width: 0.063inch; Height: 0.026inch; Depth: 1.6mm; Military Standard: Not; Lead Free: Lead Free; RoHS Compliant: Yes; ComponentLink1URL: http://www.yageo.com.tw/exep/pages/download/literatures/PYu-R_INT-thick_7.pdf?src-supplier=Digi-Key; ComponentLink1Description: http://www.yageo.com.tw/exep/pages/download/literatures/PYu-R_INT-thick_7.pdf?src-supplier=Digi-Key; Supplier Part Number 1: 311-3.3MERCT-ND; Case/Package: 1206
footprint R1206B/3216MM (Chip Resistor, 2-Leads, Body 3.2x1.6mm, IPC Medium Density)
pins: 1, 2

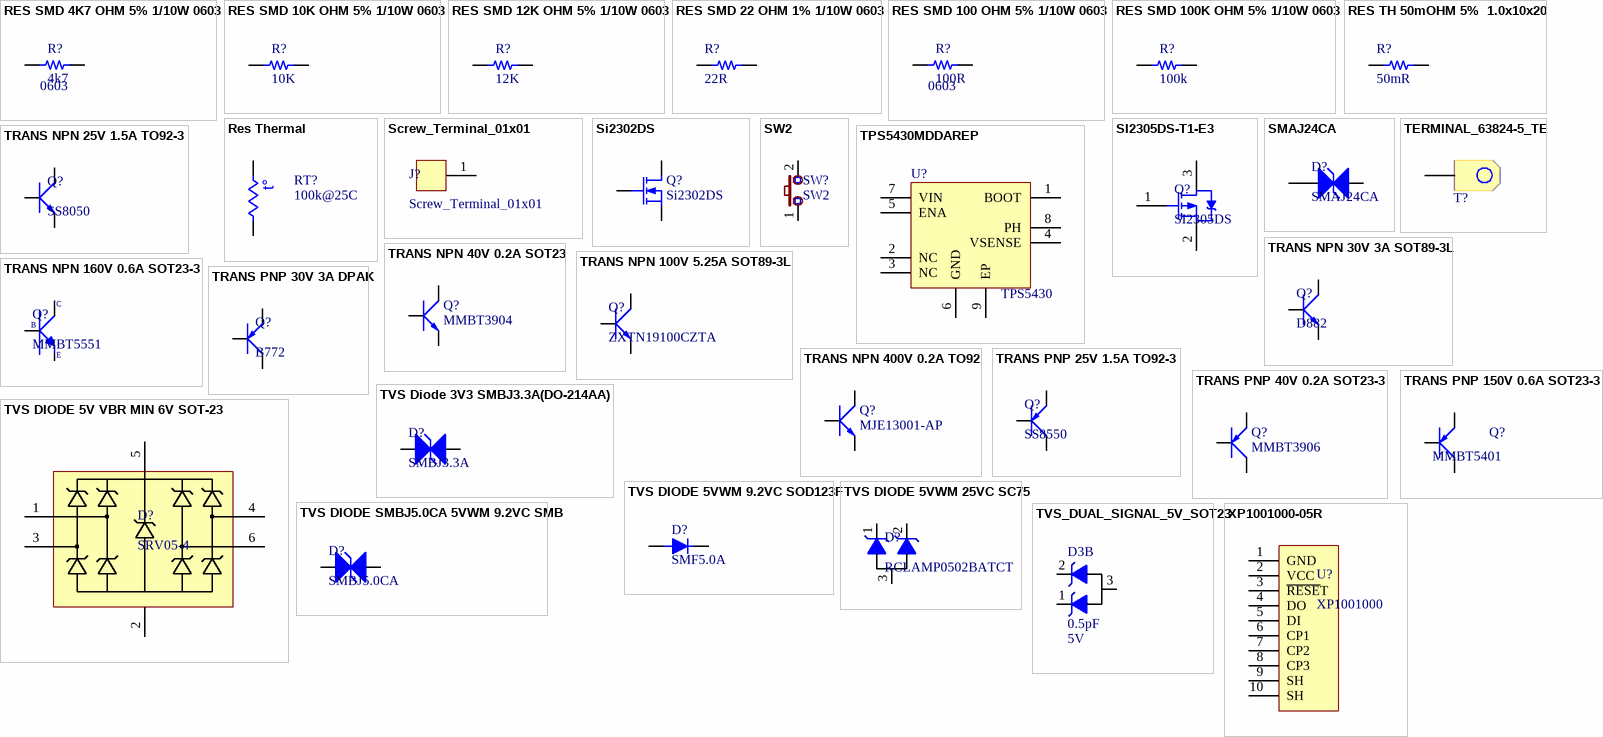
[diagram p7: symbols RES SMD 4K7 OHM 5% 1/10W 0603 to XP1001000-05R]

## RES SMD 4K7 OHM 5% 1/10W 0603
designator R?, comment 4k7  Case Code (Imperial): 0603
RES SMD 4.7K OHM 1% 1/10W 0603; Manufacturer: Yageo; Manufacturer Part Number: RC0603FR-074K7L; Resistance: 4.7kR; Temperature Coefficient: 100ppm/°C; Power Rating: 100mW; Voltage Rating (DC): 50V; Supplier 1: Digi-Key; Stock 1: 1582742; Pricing 1: 1=0.1, 10=0.024, 100=0.0097, 1000=0.00436, 2500=0.00378 (USD); Case/Package: 0603; Number of Pins: 2; Case Code (Metric): 1608; Size Code: 0603; Min Operating Temperature: -55°C; Max Operating Temperature: 155°C; Tolerance: 1%; Resistor Type: Thick Film; Packaging: Tape and Reel; Voltage Rating: 50V; Termination: SMD/SMT; Features: Moisture Resistant; Series: RC; Max Power Dissipation: 100mW; Number of Terminations: 2; Construction: Rectangular; Resistance Tolerance: 1%; Length: 1.6mm; Width: 0.8mm; Height: 0.45mm; Depth: 0.8mm; Lead Pitch: 0.3mm; REACH SVHC: No SVHC; Lead Free: Lead Free; RoHS Compliant: Yes; Military Standard: Not; ComponentLink1URL: http://www.farnell.com/datasheets/38590.pdf?src-supplier=Element14; ComponentLink1Description: http://www.farnell.com/datasheets/38590.pdf?src-supplier=Element14; ComponentLink2URL: http://www.farnell.com/datasheets/2167052.pdf?src-supplier=Element14; ComponentLink2Description: http://www.farnell.com/datasheets/2167052.pdf?src-supplier=Element14; ComponentLink3URL: http://www.farnell.com/datasheets/1868787.pdf?src-supplier=Element14; ComponentLink3Description: http://www.farnell.com/datasheets/1868787.pdf?src-supplier=Element14; ComponentLink4URL: https://www.verical.com/server-webapp/html/getDatasheet?partID=422754&src-supplier=Verical; ComponentLink4Description: https://www.verical.com/server-webapp/html/getDatasheet?partID=422754&src-supplier=Verical; Supplier Part Number 1: 311-4.70KHRCT-ND
footprint R0603B/1608MM (Chip Resistor, 2-Leads, Body 1.6x0.8mm, IPC High Density)
pins: 1, 2

## RES SMD 10K OHM 5% 1/10W 0603
designator R?, comment 10K
Surface Mount Thick Film Resistor, RC Series, 10 kohm, 100 mW, - 5%, 50 V, 0603 [1608 Metric]; Manufacturer: Yageo; Manufacturer Part Number: RC0603JR-0710KL; Resistance: 10kR; Temperature Coefficient: 100ppm/°C; Voltage Rating (DC): 50V; Power Rating: 100mW; Supplier 1: Digi-Key; Stock 1: 10996894; Pricing 1: 1=0.1, 10=0.02, 100=0.008, 1000=0.0036, 2500=0.00312 (USD); Case/Package: 0603; Number of Pins: 2; Contact Plating: Tin,Matte; Min Operating Temperature: -55°C; Max Operating Temperature: 155°C; Tolerance: 5%; Resistor Type: Thick Film; Packaging: Tape and Reel; Voltage Rating: 50V; Termination: SMD/SMT; Features: Moisture Resistant; Max Power Dissipation: 100mW; Number of Terminations: 2; Length: 0.063inch; Width: 0.031inch; Depth: 0.8mm; Height - Seated (Max): 0.022inch; Radiation Hardening: No; REACH SVHC: Unknown; Lead Free: Lead Free; Military Standard: Not; RoHS Compliant: Yes; ComponentLink1URL: http://www.yageo.com/documents/recent/PYu-RC_Group_51_RoHS_L_10.pdf?src-supplier=Digi-Key; ComponentLink1Description: http://www.yageo.com/documents/recent/PYu-RC_Group_51_RoHS_L_10.pdf?src-supplier=Digi-Key; Supplier Part Number 1: 311-10KGRCT-ND; Case Code (Metric): 1608; Case Code (Imperial): 0603
footprint R0603B/1608MM (Chip Resistor, 2-Leads, Body 1.6x0.8mm, IPC High Density)
pins: 1, 2

## RES SMD 12K OHM 5% 1/10W 0603
designator R?, comment 12K
Surface Mount Thick Film Resistor, RC Series, 12 kohm, 100 mW, - 5%, 50 V, 0603 [1608 Metric]; Manufacturer: Yageo; Manufacturer Part Number: RC0603JR-0710KL; Resistance: 10kR; Temperature Coefficient: 100ppm/°C; Voltage Rating (DC): 50V; Power Rating: 100mW; Supplier 1: Digi-Key; Stock 1: 10996894; Pricing 1: 1=0.1, 10=0.02, 100=0.008, 1000=0.0036, 2500=0.00312 (USD); Case/Package: 0603; Number of Pins: 2; Contact Plating: Tin,Matte; Min Operating Temperature: -55°C; Max Operating Temperature: 155°C; Tolerance: 5%; Resistor Type: Thick Film; Packaging: Tape and Reel; Voltage Rating: 50V; Termination: SMD/SMT; Features: Moisture Resistant; Max Power Dissipation: 100mW; Number of Terminations: 2; Length: 0.063inch; Width: 0.031inch; Depth: 0.8mm; Height - Seated (Max): 0.022inch; Radiation Hardening: No; REACH SVHC: Unknown; Lead Free: Lead Free; Military Standard: Not; RoHS Compliant: Yes; ComponentLink1URL: http://www.yageo.com/documents/recent/PYu-RC_Group_51_RoHS_L_10.pdf?src-supplier=Digi-Key; ComponentLink1Description: http://www.yageo.com/documents/recent/PYu-RC_Group_51_RoHS_L_10.pdf?src-supplier=Digi-Key; Supplier Part Number 1: 311-10KGRCT-ND; Case Code (Metric): 1608; Case Code (Imperial): 0603
footprint R0603B/1608MM (Chip Resistor, 2-Leads, Body 1.6x0.8mm, IPC High Density)
pins: 1, 2

## RES SMD 22 OHM 1% 1/10W 0603
designator R?, comment 22R
Res Thick Film 0603 22 Ohm 1% 0.1W(1/10W) ±100ppm/C Molded SMD Paper T/R; Manufacturer: Yageo; Manufacturer Part Number: RC0603FR-1022RL; Temperature Coefficient: 100ppm/°C; Power Rating: 100mW; Voltage Rating: 50V; Case/Package: 0603; Contact Plating: Tin,Lead,Matte; Case Code (Metric): 1608; Size Code: 0603; Min Operating Temperature: -55°C; Max Operating Temperature: 155°C; Resistance: 22R; Tolerance: 1%; Resistor Type: Thick Film; Packaging: Tape and Reel; Termination: SMD/SMT; Series: RC; Construction: Rectangular; Length: 1.6mm; Width: 0.8mm; Height: 0.45mm; Depth: 0.8mm; Radiation Hardening: No; Military Standard: Not; Lead Free: Lead Free; RoHS Compliant: Yes; ComponentLink1URL: http://www.mouser.com/ds/2/447/RC0603-272842.pdf?src-supplier=Mouser; ComponentLink1Description: http://www.mouser.com/ds/2/447/RC0603-272842.pdf?src-supplier=Mouser; Supplier 1: Digi-Key; Stock 1: 9436; Pricing 1: 1=0.1, 10=0.024, 100=0.0097, 1000=0.00436, 2500=0.00378, 5000=0.00312 (USD); Supplier Part Number 1: 13-RC0603FR-1022RLDKR-ND; Case Code (Imperial): 0603
footprint R0603B/1608MM (Chip Resistor, 2-Leads, Body 1.6x0.8mm, IPC High Density)
pins: 1, 2

## RES SMD 100 OHM 5% 1/10W 0603
designator R?, comment 100R  Case Code (Imperial): 0603
100 Ohms ±5% 0.1W, 1/10W Chip Resistor 0603 (1608 Metric) Automotive AEC-Q200, Moisture Resistant Thick Film; Manufacturer: Yageo; Manufacturer Part Number: RC0603FR-07100RP; Tolerance: 1%; Max Power Dissipation: 100mW; Temperature Coefficient: 200ppm/°C; Supplier 1: Digi-Key; Stock 1: 0; Pricing 1: 1=0.1, 10=0.04, 100=0.0161, 1000=0.00725, 2500=0.0063 (USD); Case/Package: 0603; Case Code (Metric): 1608; Min Operating Temperature: -55°C; Max Operating Temperature: 155°C; Packaging: Cut Tape; Resistance: 100R; Resistor Type: Thick Film; Number of Terminations: 2; Features: Moisture Resistant; Series: RC-P Lead Free; Length: 0.063inch; Width: 0.031inch; Height: 0.022inch; RoHS Compliant: Yes; ComponentLink1URL: http://www.yageo.com/NewPortal/yageodocoutput?fileName=/pdf/R-Chip/PYu-RC_51_RoHS_P_0.pdf&src-supplier=Digi-Key; ComponentLink1Description: http://www.yageo.com/NewPortal/yageodocoutput?fileName=/pdf/R-Chip/PYu-RC_51_RoHS_P_0.pdf&src-supplier=Digi-Key; ComponentLink2URL: http://www.yageo.com.tw/exep/pages/download/literatures/PYu-R_INT-thick_7.pdf?src-supplier=Digi-Key; ComponentLink2Description: http://www.yageo.com.tw/exep/pages/download/literatures/PYu-R_INT-thick_7.pdf?src-supplier=Digi-Key; Supplier Part Number 1: YAG1289DKR-ND
footprint R0603B/1608MM (Chip Resistor, 2-Leads, Body 1.6x0.8mm, IPC High Density)
pins: 1, 2

## RES SMD 100K OHM 5% 1/10W 0603
designator R?, comment 100k
Surface Mount Thick Film Resistor, RC Series, 100 kohm, 100 mW, - 5%, 50 V, 0603 [1608 Metric]; Manufacturer: Yageo; Manufacturer Part Number: RC0603JR-07100KL; Resistance: 100kR; Temperature Coefficient: 100ppm/°C; Voltage Rating: 50V; Power Rating: 100mW; Supplier 1: Digi-Key; Stock 1: 2090173; Pricing 1: 1=0.1, 10=0.02, 100=0.008, 1000=0.0036, 2500=0.00312 (USD); Case/Package: 0603; Number of Pins: 2; Contact Plating: Tin,Matte; Case Code (Metric): 1608; Size Code: 0603; Min Operating Temperature: -55°C; Max Operating Temperature: 155°C; Tolerance: 5%; Resistor Type: Thick Film; Packaging: Tape and Reel; Voltage Rating (DC): 50V; Termination: SMD/SMT; Features: Moisture Resistant; Series: RC; Max Power Dissipation: 100mW; Number of Terminations: 2; Resistance Tolerance: 5%; Width: 0.8mm; Radiation Hardening: No; REACH SVHC: No SVHC; Lead Free: Lead Free; RoHS Compliant: Yes; ComponentLink1URL: http://www.farnell.com/datasheets/443971.pdf?src-supplier=Element14; ComponentLink1Description: http://www.farnell.com/datasheets/443971.pdf?src-supplier=Element14; ComponentLink2URL: http://www.farnell.com/datasheets/2167052.pdf?src-supplier=Element14; ComponentLink2Description: http://www.farnell.com/datasheets/2167052.pdf?src-supplier=Element14; ComponentLink3URL: http://www.yageo.com/documents/recent/PYu-RC_Group_51_RoHS_L_2.pdf?src-supplier=Avnet; ComponentLink3Description: http://www.yageo.com/documents/recent/PYu-RC_Group_51_RoHS_L_2.pdf?src-supplier=Avnet; Supplier Part Number 1: 311-100KGRDKR-ND; Case Code (Imperial): 0603
footprint R0603B/1608MM (Chip Resistor, 2-Leads, Body 1.6x0.8mm, IPC High Density)
pins: 1, 2

## RES TH 50mOHM 5%  1.0x10x20
designator R?, comment 50mR
RES TH 0.05 OHM 5%  1.0x10x20; Manufacturer: Eaton; Manufacturer Part Number: MSMA2512R0150FCN; Supplier 1: Newark; RoHS: No; Category: Chip SMD Resistors; Stock 1: 3990; Pricing 1: 10=0.235, 25=0.221, 50=0.208, 100=0.195 (USD); Supplier Part Number 1: 61AK4371
footprint R_SHUNT_10mm
pins: 1, 2

## Res Thermal
designator RT?, comment 100k@25C
Thermistor; LOH_code: CLA0674; VALUE: 50k; Mô Tả: Điện trở nhiệt NTC MF52E 50K; MANUFACTURER2_PART#: http://linhkienchatluong.vn/dien-tro-nhiet---ntc/dien-tro-nhiet-ntc-mf52e-50k_sp1160_ct8391.aspx
footprint RES NTC 10K
footprint R0805B/2012MM (Chip Resistor, 2-Leads, Body 2.0x1.3mm, IPC Medium Density)
pins: 1, 2
text: t°

## Screw_Terminal_01x01
designator J?
footprint TERMINAL CHARGER M1
pins: 1

## Si2302DS
designator Q?
N-Channel MOSFET; Published: 8-Jun-2000; LatestRevisionDate: 17-Jul-2002; LatestRevisionNote: Re-released for DXP Platform.; PackageVersion: 1995/1996; PackageReference: E3; Publisher: Altium Limited; PackageDescription: TO, Flat Index; 3 In-Line, Axial Leads; Body Dia. 4.6mm; Lead Dia. 0.5 mm (max)
footprint SOT 23
pins: 1 G, 2 S, 3 D

## SI2305DS-T1-E3
designator Q?, comment SI2305DS
Mosfet, Power, P-ch, Vdss -8V, Rds(on) 0.044 Ohm, Id +/-3.5A, TO-236 (SOT-23), Pd 1.25W; Manufacturer: Vishay; Manufacturer Part Number: SI2305DS-T1-E3; Rds On Max: 52mR; Input Capacitance: 1.245nF; Rise Time: 25ns; Nominal Vgs: -800mV; Number of Elements: 1; Continuous Drain Current (ID): 3.5A; Drain to Source Breakdown Voltage: 8V; Turn-Off Delay Time: 55ns; Turn-On Delay Time: 13ns; Element Configuration: Single; Polarity: P-CHANNEL; Polarization: P; Supplier 1: Farnell; Stock 1: 0; Pricing 1: 1=0.42, 25=0.35, 100=0.27, 250=0.26, 500=0.25, 1000=0.231, 4000=0.226, 10000=0.222 (GBP); Mount: Surface Mount; Case/Package: SOT-23-3; Number of Pins: 3; Min Operating Temperature: -55°C; Max Operating Temperature: 150°C; Package Quantity: 3000; Packaging: Tape and Reel; Dual Supply Voltage: -8V; Max Power Dissipation: 1.25W; Drain to Source Voltage (Vdss): -8V; Drain to Source Resistance: 52mR; Power Dissipation: 1.25W; Gate to Source Voltage (Vgs): 8V; Fall Time: 25ns; Termination: SMD/SMT; Threshold Voltage: -800mV; On-State Resistance: 52mR; Series: TrenchFET®; Drain-source On Resistance-Max: 52mR; Width: 0.055inch; Radiation Hardening: No; Lead Free: Lead Free; RoHS Compliant: Yes; ComponentLink1URL: https://datasheet.ciiva.com/7370/70833-7370957.pdf?src-supplier=Newark; ComponentLink1Description: https://datasheet.ciiva.com/7370/70833-7370957.pdf?src-supplier=Newark; ComponentLink2URL: https://datasheet.ciiva.com/23724/1759763-23724264.pdf?src-supplier=Newark; ComponentLink2Description: https://datasheet.ciiva.com/23724/1759763-23724264.pdf?src-supplier=Newark; ComponentLink3URL: https://datasheet.ciiva.com/8115/70833-8115073.pdf?src-supplier=Avnet; ComponentLink3Description: https://datasheet.ciiva.com/8115/70833-8115073.pdf?src-supplier=Avnet; ComponentLink4URL: https://datasheet.ciiva.com/15136/getdatasheetpartid-30615-15136983.pdf?src-supplier=Verical; ComponentLink4Description: https://datasheet.ciiva.com/15136/getdatasheetpartid-30615-15136983.pdf?src-supplier=Verical; ComponentLink5URL: https://datasheet.ciiva.com/7789/70833-7789021.pdf?src-supplier=Element14; ComponentLink5Description: https://datasheet.ciiva.com/7789/70833-7789021.pdf?src-supplier=Element14; ComponentLink6URL: https://datasheet.ciiva.com/28541/1759763-28541740.pdf?src-supplier=Element14; ComponentLink6Description: https://datasheet.ciiva.com/28541/1759763-28541740.pdf?src-supplier=Element14; ComponentLink7URL: https://datasheet.ciiva.com/18433/70026065-18433834.pdf?src-supplier=Allied+Electronics; ComponentLink7Description: https://datasheet.ciiva.com/18433/70026065-18433834.pdf?src-supplier=Allied+Electronics; ComponentLink8URL: https://datasheet.ciiva.com/6370/70833-6370501.pdf?src-supplier=Digi-Key; ComponentLink8Description: https://datasheet.ciiva.com/6370/70833-6370501.pdf?src-supplier=Digi-Key; Supplier Part Number 1: 1470101
footprint SOT 23
pins: 1 G, 2 S, 3 D

## SMAJ24CA
designator D?
TVS DIODE 24VWM 38.9VC SMA; Manufacturer: Littelfuse; Clamping Voltage: 38.9V; Peak Pulse Power: 400W; Reverse Standoff Voltage: 24V; Min Breakdown Voltage: 26.7V; Peak Pulse Current: 10.3A; Polarity: Bidirectional; Number of Bidirectional Channels: 1; Power Line Protection: No; Test Current: 1mA; Diode Type: ZENER; Max Breakdown Voltage: 29.5V; Leakage Current: 1uA; Max Power Dissipation: 3.3W; Supplier 1: Digi-Key; Manufacturer Part Number: SMAJ24CA; Stock 1: 255383; Pricing 1: 1=0.37, 10=0.296, 100=0.2016, 500=0.15122, 1000=0.11342, 2000=0.10397 (USD); Mount: Surface Mount; Case/Package: DO-214AC; Number of Pins: 2; Min Operating Temperature: -65°C; Max Operating Temperature: 150°C; Packaging: Tape and Reel; Breakdown Voltage: 26.7V; Package Quantity: 5000; Max Surge Current: 10.3A; Resistor Type: Zener; Series: SMAJ; Direction: Bidirectional; Operating Supply Voltage: 24V; Reverse Breakdown Voltage: 26.7V; Termination: SMD/SMT; Number of Elements: 1; Number of Channels: 1; Power Dissipation: 400W; Voltage Rating (DC): 24V; Clamping Voltage-Max: 38.9V; Length: 5.28mm; Width: 2.79mm; Height: 2.29mm; RoHS Compliant: Yes; Lead Free: Lead Free; Reach SVHC Compliant: Yes; ComponentLink1URL: https://datasheet.ciiva.com/331/littelfuse-tvs-diode-smaj-datasheet-pdf-331048.pdf?src-supplier=Digi-Key; ComponentLink1Description: https://datasheet.ciiva.com/331/littelfuse-tvs-diode-smaj-datasheet-pdf-331048.pdf?src-supplier=Digi-Key; ComponentLink2URL: https://datasheet.ciiva.com/331/littelfuse-tvs-diode-smaj-datasheet-pdf-331049.pdf?src-supplier=Digi-Key; ComponentLink2Description: https://datasheet.ciiva.com/331/littelfuse-tvs-diode-smaj-datasheet-pdf-331049.pdf?src-supplier=Digi-Key; ComponentLink3URL: https://datasheet.ciiva.com/331/littelfuse-tvs-diode-smaj-datasheet-pdf-331050.pdf?src-supplier=Digi-Key; ComponentLink3Description: https://datasheet.ciiva.com/331/littelfuse-tvs-diode-smaj-datasheet-pdf-331050.pdf?src-supplier=Digi-Key; ComponentLink4URL: https://datasheet.ciiva.com/28473/607617-28473406.pdf?src-supplier=Element14; ComponentLink4Description: https://datasheet.ciiva.com/28473/607617-28473406.pdf?src-supplier=Element14; Supplier Part Number 1: SMAJ24CALFCT-ND
footprint SMA (DO-214AC) (Molded Diode, 2-Leads, Body 5.3x2.8mm, IPC Medium Density)
pins: 1 A, 2 K

## SW2
designator SW?
Switch button 4 pin
footprint SW2-SOH (Switch, Push Button, Thru-Hole; 4 Leads; Body 8.5 x 8.5 mm (LxW typ); Row Spacing 9.0 mm; Pitch 4.5 mm)
pins: 1, 2

## TERMINAL_63824-5_TE
designator T?, comment TERMINAL CONN  (value not drawn)
TERMINAL_63824-5_TE; Manufacturer: TE Connectivity; Value: TERMINAL_63824-5; Manufacturer PN: 63824-5; Sale Link: https://www.lcsc.com/product-detail/span-style-background-color-ff0-PCB-span-Welding-span-style-background-color-ff0-Terminal-span_TE-Connectivity-63824-5_C575056.html; Datasheet: https://datasheet.lcsc.com/lcsc/2201131030_TE-Connectivity-63824-5_C575056.pdf; Price: *; Distributor: LCSC; NI: *; Distributor PN: C575056
footprint TERMINAL_63824-5
pins: 1